# EAGLE library part MINI8X8LED (library jason_eagle6)
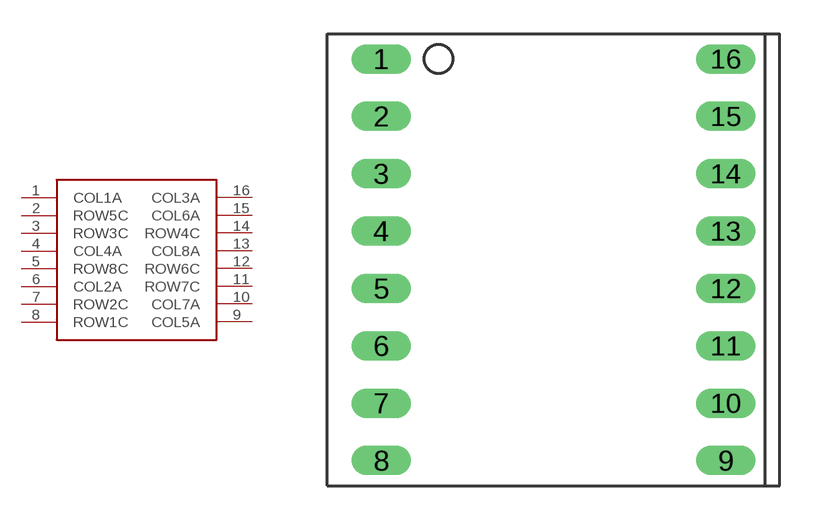
[diagram p17: symbol with the pads of MINI8X8LED; footprint MINI8X8LED]

Designator prefix DISP

## MINI8X8LED  [MINI8X8LED]
1  COL1A
2  ROW5C
3  ROW3C
4  COL4A
5  ROW8C
6  COL2A
7  ROW2C
8  ROW1C
9  COL5A
10  COL7A
11  ROW7C
12  ROW6C
13  COL8A
14  ROW4C
15  COL6A
16  COL3A

## Footprint MINI8X8LED (pad centres in mm)
drill 0.8 long: 1 -7.62,8.89; 2 -7.62,6.35; 3 -7.62,3.81; 4 -7.62,1.27; 5 -7.62,-1.27; 6 -7.62,-3.81; 7 -7.62,-6.35; 8 -7.62,-8.89; 9 7.62,-8.89; 10 7.62,-6.35; 11 7.62,-3.81; 12 7.62,-1.27; 13 7.62,1.27; 14 7.62,3.81; 15 7.62,6.35; 16 7.62,8.89